# Altium schematic symbol library Schlib_SG_Micro.SchLib: 1 symbol
Pins are listed as number, name and electrical type; pins without a type are passive.

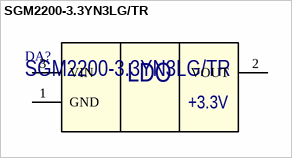
[diagram p0: symbol SGM2200-3.3YN3LG/TR]

## SGM2200-3.3YN3LG/TR
designator DA?
High Voltage Regulator; Manufacturer: SGMicro; Part Number: SGM2200-3.3YN3LG/TR; Package: SOT23-3
footprint SOT23-3 (SOT23, 6-Leads, Body 2.90x2.80mm, Pitch 0.95mm, IPC Medium Density)
pins: 1 GND (power), 2 VOUT (power), 3 VIN (power)
text: LDO; +3.3V